# Altium footprint library 1008CS.PcbLib: 1 footprints
Each footprint in its own frame and in the unit in brackets; x right, y up, seen from the top. Pads: shape width x height; smd on the part's side, far side on the other; paste and mask are expansions set on the pad; w line width, h text height; cw(c..) or ccw(c..) is an arc to the next point about the centre after c.
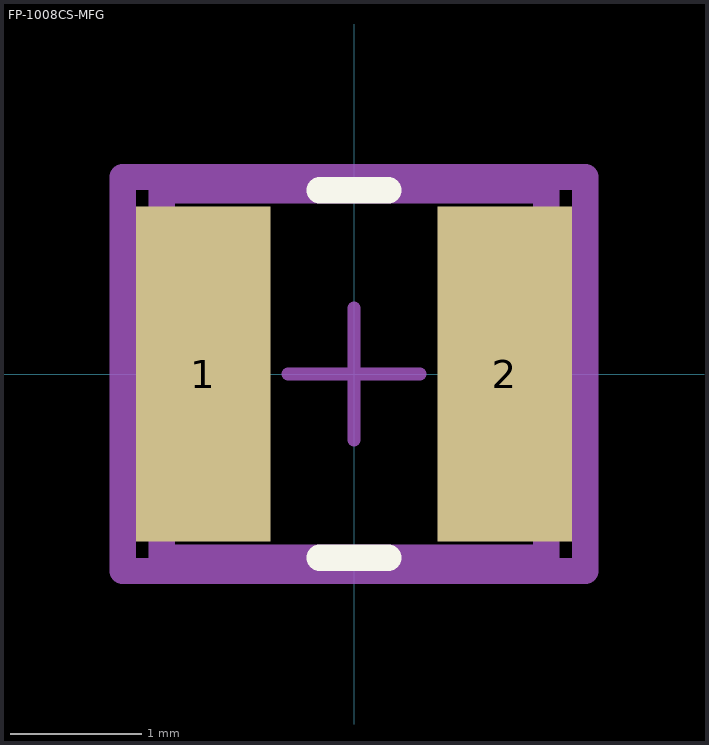
[diagram p0: the footprint, top view; thin cyan lines are the x and y axes]

## FP-1008CS-MFG [mm]
pads (2):
  rect 1.02x2.54 smd paste+0 mask+0: 1(-1.145,0) 2(1.145,0)
Top Overlay:
  lines w0.2: -0.26,-1.395 0.26,-1.395 ; -0.26,1.395 0.26,1.395
Top Assembly:
  lines w0.2: -1.755,-1.495 -1.755,1.495 1.755,1.495 1.755,-1.495 -1.755,-1.495
  text ".Designator" at 0,0.187 h1
Top 3D Body:
  lines w0.2: -1.46,-1.395 -1.46,1.395 1.46,1.395 1.46,-1.395 -1.46,-1.395
Top Courtyard:
  lines w0.2: -1.755,-1.495 -1.755,1.495 1.755,1.495 1.755,-1.495 -1.755,-1.495
Top Component Center:
  lines w0.1: -0.5,0 0.5,0 ; 0,-0.5 0,0.5
3D body "Ind_Coilcraft_1008CS-100XGLC_eec.STEP": height 0.25, standoff 0, extent -1.755,-1.495 1.755,1.495